# EAGLE library part OSRAM-MULTILED-RGB (library OSURC_LED)
Compact, blindingly bright RGB LED.
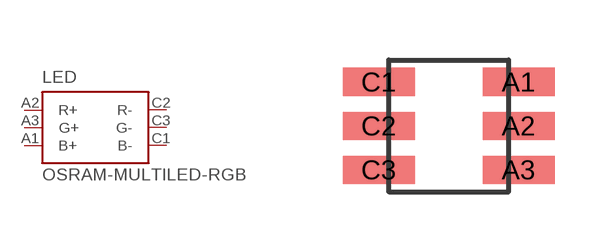
[diagram p0: symbol with the pads of PLCC-6; footprint PLCC-6]

Designator prefix LED

## OSRAM-MULTILED-RGB (DIGIKEY_PN: 475-2899-1-ND; VALUE: RGB)  [PLCC-6]
A1  B+  pas
A2  R+  pas
A3  G+  pas
C1  B-  pas
C2  R-  pas
C3  G-  pas

## Footprint PLCC-6 (pad centres in mm)
smd 1.8 x 0.7: A1 1.75,1.1; A2 1.75,0; A3 1.75,-1.1; C1 -1.75,1.1; C2 -1.75,0; C3 -1.75,-1.1